# Altium schematic symbol library LDO_5P.SchLib: 1 symbol
Pins are listed as number, name and electrical type; pins without a type are passive.

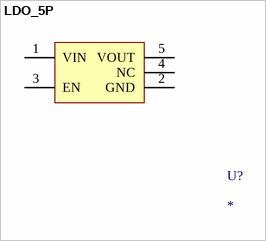
[diagram p0: symbol LDO_5P]

## LDO_5P
designator U?
pins: 1 VIN, 2 GND, 3 EN, 4 NC, 5 VOUT